# EAGLE library part IQS128 (library ds_ic_peripherals)
Single Channel Capacitive Proximity/Touch Controller
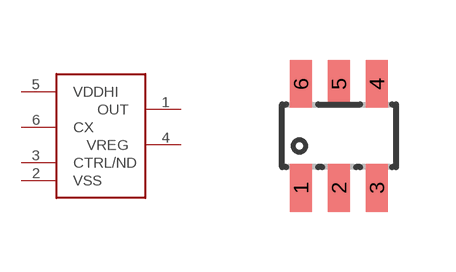
[diagram p24: symbol with the pads of SOT23-6; footprint SOT23-6]

Designator prefix -

## IQS128  [SOT23-6]
1  OUT
2  VSS
3  CTRL/ND
4  VREG
5  VDDHI
6  CX

## Footprint SOT23-6 (pad centres in mm)
smd 0.55 x 1.2: 1 -0.95,-1.3; 2 0,-1.3; 3 0.95,-1.3; 4 0.95,1.3; 5 0,1.3; 6 -0.95,1.3